# EAGLE library part 84952-6 (library 84952-6)
Body Features: Primary Product Color Natural | Configuration Features: PCB Mount Orientation Right Angle | Compatible With Wire & Cable Type FPC | Compatible With Wire & Cable Type FFC | Number of Positions 6 | Number of Rows 1 | Contact Features: Contact Mating Area Plating Material Tin | PCB Contact Termination Area Plating Material Thickness 2 MICM | Contact Mating Area Plating Material Thickness 2 MICM | Contact Current Rating (Max) 1 AMP | Contact Shape & Form Single Beam | PCB Contact Termination Area Source: Datasheet <https://www.te.com/commerce/DocumentDelivery/DDEController?Action=srchrtrv&DocNm=5-1773461-0_Standard_FPC_Connectors_QRG&DocType=Data Sheet&DocLang=English&PartCntxt=84952-6&DocFormat=pdf>
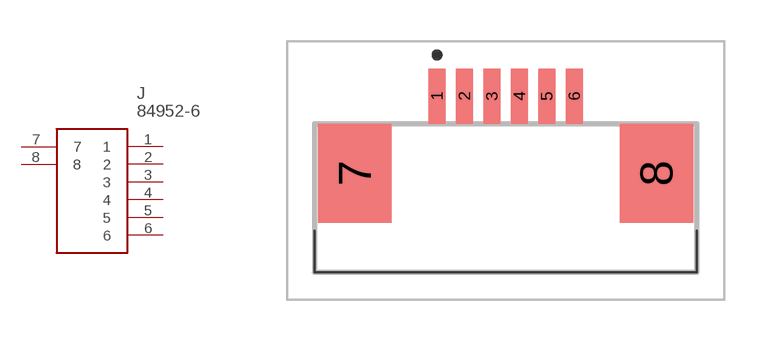
[diagram p0: symbol with the pads of 849526; footprint 849526]

Designator prefix J

## 84952-6 (Description: Body Features: Primary Product Color Natural | Configuration Features: PCB Mount Orientation Right Angle | Compatible With Wire & Cable Type FPC | Compatible With Wire & Cable Type FFC | Number of Positions 6 | Number of Rows 1 | Contact Features: Contact Mating Area Plating Material Tin | PCB Contact Termination Area Plating Material Thickness 2 MICM | Contact Mating Area Plating Material Thickness 2 MICM | Contact Current Rating (Max) 1 AMP | Contact Shape & Form Single Beam | PCB Contact Termination Area; Height: 2.12mm; Manufacturer_Name: TE Connectivity; Manufacturer_Part_Number: 84952-6; Mouser_Part_Number: 571-84952-6; Mouser_Price-Stock: https://www.mouser.co.uk/ProductDetail/TE-Connectivity/84952-6?qs=uUkeXfjQ8uRheCYN9AcwcA%3D%3D)  [849526]
1  1
2  2
3  3
4  4
5  5
6  6
7  7
8  8

## Footprint 849526 (pad centres in mm)
84952-6-3
smd 0.61 x 2: 1 -2.5,3.2; 2 -1.5,3.2; 3 -0.5,3.2; 4 0.5,3.2; 5 1.5,3.2; 6 2.5,3.2
smd 2.68 x 3.6: 7 -5.49,0.4; 8 5.49,0.4